# Altium schematic symbol library M_FAN.Schlib: 1 symbol
Pins are listed as number, name and electrical type; pins without a type are passive.

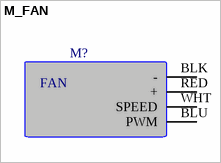
[diagram p0: symbol M_FAN]

## M_FAN
designator M?  (mechanical)
pins: BLK -, BLU PWM, RED +, WHT SPEED
text: FAN